# Altium integrated library Atmel microcontrollers.IntLib: 1 symbol
Pins are listed as number, name and electrical type; pins without a type are passive.

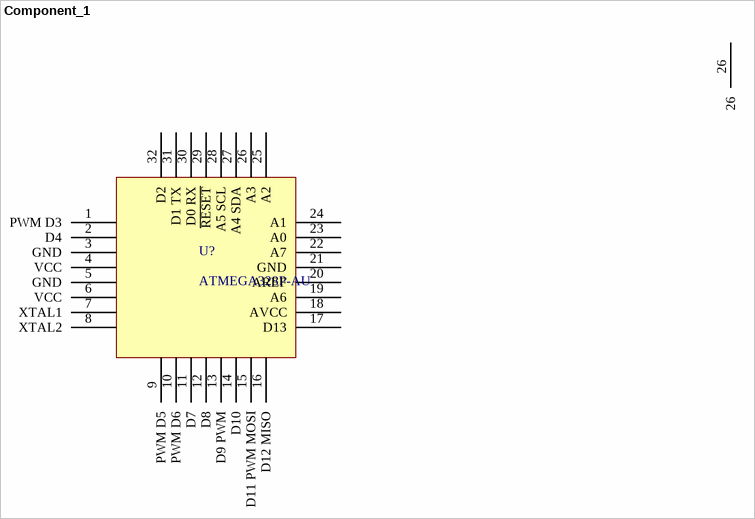
[diagram p0: symbol Component_1]

## Component_1
designator U?, comment ATMEGA328P-AU
ATMEGA328P-AU / 8 Bit MCU, AVR ATmega Family ATmega328 Series Microcontrollers, 20 MHz, 32 KB, 32 Pins, TQFP; Created by: Chinmaya Shukla; Date Created: 16 December, 2022; Data sheet URL: https://docs.rs-online.com/144d/0900766b815b8e7b.pdf
footprint TQFP80P900X900X120-32N (TQFP, 32-Leads, Body 7.00x7.00mm, Pitch 0.80mm, IPC Medium Density)
pins: 1 PWM D3, 2 D4, 3 GND, 4 VCC, 5 GND, 6 VCC, 7 XTAL1, 8 XTAL2, 9 PWM D5, 10 PWM D6, 11 D7, 12 D8, 13 D9 PWM, 14 D10, 15 D11 PWM MOSI, 16 D12 MISO, 17 D13, 18 AVCC, 19 A6, 20 AREF, 21 GND, 22 A7, 23 A0, 24 A1, 25 A2, 26, 26 A3, 27 A4 SDA, 28 A5 SCL, 29 ~{RESET}, 30 D0 RX, 31 D1 TX, 32 D2